# Altium footprint library Transistor.PcbLib: 227 footprints (part 12 of 15)
Each footprint in its own frame and in the unit in brackets; x right, y up, seen from the top. Pads: shape width x height; smd on the part's side, far side on the other; paste and mask are expansions set on the pad; w line width, h text height; cw(c..) or ccw(c..) is an arc to the next point about the centre after c.
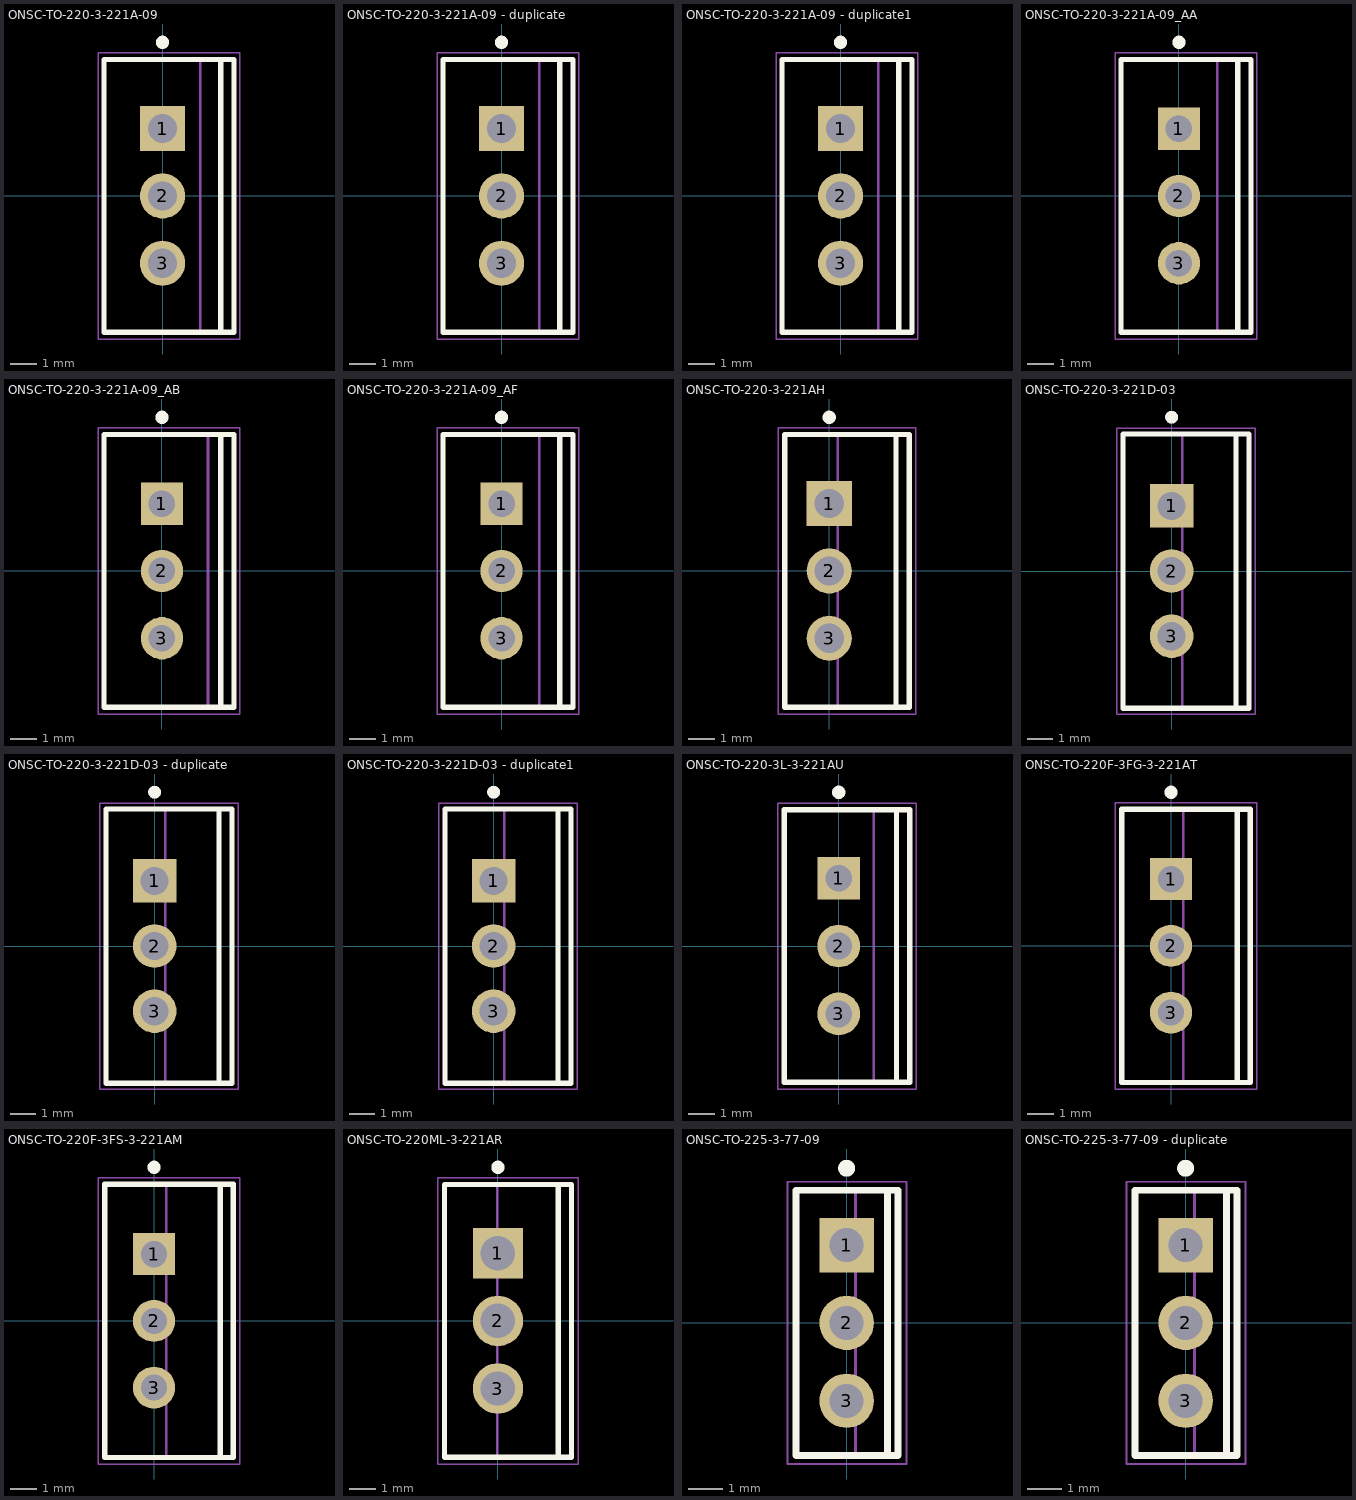
[diagram p11: the footprints below, top view; thin cyan lines are the x and y axes]

## ONSC-TO-220-3-221A-09 [mm] "FM, 3-Leads, Body 10.3x4.85mm, Pitch 2.54mm"
height 19.85
pads (3):
  rect 1.7x1.7 hole 1.1: 1(0,2.54)
  round 1.7 hole 1.1: 2(0,0) 3(0,-2.54)
Top Overlay:
  circle w0.25: c0,5.8 r0.125
  lines w0.2: 2.195,-5.15 2.195,5.15 ; -2.205,-5.15 2.695,-5.15 2.695,5.15 -2.205,5.15 -2.205,-5.15
Mechanical 13:
  lines w0.1: 1.42,-5.15 1.42,5.15 ; -2.18,-5.15 -2.18,5.15 2.67,5.15 2.67,-5.15 -2.18,-5.15
Mechanical 15:
  lines w0.05: -2.43,-5.4 -2.43,5.4 2.92,5.4 2.92,-5.4 -2.43,-5.4
  lines w0.1: -0.5,0 0.5,0 ; 0,-0.5 0,0.5
3D body: height 2.8, standoff 0, extent -0.25,1.87 0.25,3.21
3D body: height 0, standoff -1.6, extent -0.25,2.15 0.25,2.93
3D body: height 2.8, standoff 0, extent -0.25,-0.67 0.25,0.67
3D body: height 0, standoff -1.6, extent -0.25,-0.39 0.25,0.39
3D body: height 2.8, standoff 0, extent -0.25,-3.21 0.25,-1.87
3D body: height 0, standoff -1.6, extent -0.25,-2.93 0.25,-2.15
3D body: height 13.65, standoff 2.8, extent -2.18,-5.15 2.67,5.15
3D body: height 15.13, standoff 13.65, extent 1.42,-4.975 2.67,4.975
3D body: height 15.17, standoff 15.13, extent 1.42,0.376 2.67,4.975
3D body: height 15.17, standoff 15.13, extent 1.42,-4.975 2.67,-0.376
3D body: height 18.98, standoff 18.94, extent 1.42,0.376 2.67,4.975
3D body: height 18.98, standoff 18.94, extent 1.42,-4.975 2.67,-0.376
3D body: height 15.28, standoff 15.16, extent 1.42,0.737 2.67,4.975
3D body: height 15.28, standoff 15.16, extent 1.42,-4.975 2.67,-0.737
3D body: height 18.94, standoff 18.83, extent 1.42,0.737 2.67,4.975
3D body: height 18.94, standoff 18.83, extent 1.42,-4.975 2.67,-0.737
3D body: height 15.45, standoff 15.27, extent 1.42,1.069 2.67,4.975
3D body: height 15.45, standoff 15.27, extent 1.42,-4.975 2.67,-1.069
3D body: height 18.83, standoff 18.65, extent 1.42,1.069 2.67,4.975
3D body: height 18.83, standoff 18.65, extent 1.42,-4.975 2.67,-1.069
3D body: height 15.69, standoff 15.45, extent 1.42,1.361 2.67,4.975
3D body: height 15.69, standoff 15.45, extent 1.42,-4.975 2.67,-1.361
3D body: height 18.66, standoff 18.41, extent 1.42,1.361 2.67,4.975
3D body: height 18.66, standoff 18.41, extent 1.42,-4.975 2.67,-1.361
3D body: height 15.99, standoff 15.69, extent 1.42,1.601 2.67,4.975
3D body: height 15.99, standoff 15.69, extent 1.42,-4.975 2.67,-1.601
3D body: height 18.42, standoff 18.12, extent 1.42,1.601 2.67,4.975
3D body: height 18.42, standoff 18.12, extent 1.42,-4.975 2.67,-1.601
3D body: height 16.32, standoff 15.98, extent 1.42,1.778 2.67,4.975
3D body: height 16.32, standoff 15.98, extent 1.42,-4.975 2.67,-1.778
3D body: height 18.12, standoff 17.79, extent 1.42,1.778 2.67,4.975
3D body: height 18.12, standoff 17.79, extent 1.42,-4.975 2.67,-1.778
3D body: height 16.68, standoff 16.31, extent 1.42,1.888 2.67,4.975
3D body: height 16.68, standoff 16.31, extent 1.42,-4.975 2.67,-1.888
3D body: height 17.79, standoff 17.43, extent 1.42,1.888 2.67,4.975
3D body: height 17.79, standoff 17.43, extent 1.42,-4.975 2.67,-1.888
3D body: height 17.05, standoff 16.67, extent 1.42,1.925 2.67,4.975
3D body: height 17.05, standoff 16.67, extent 1.42,-4.975 2.67,-1.925
3D body: height 17.43, standoff 17.05, extent 1.42,1.925 2.67,4.975
3D body: height 17.43, standoff 17.05, extent 1.42,-4.975 2.67,-1.925
3D body: height 19.85, standoff 18.98, extent 1.42,-4.975 2.67,4.975

## ONSC-TO-220-3-221A-09 - duplicate [mm] "FM, 3-Leads, Body 10.3x4.85mm, Pitch 2.54mm"
height 19.85
pads (3):
  rect 1.7x1.7 hole 1.1: 1(0,2.54)
  round 1.7 hole 1.1: 2(0,0) 3(0,-2.54)
Top Overlay:
  circle w0.25: c0,5.8 r0.125
  lines w0.2: 2.195,-5.15 2.195,5.15 ; -2.205,-5.15 -2.205,5.15 2.695,5.15 2.695,-5.15 -2.205,-5.15
Mechanical 13:
  lines w0.1: 1.42,-5.15 1.42,5.15 ; -2.18,-5.15 2.67,-5.15 2.67,5.15 -2.18,5.15 -2.18,-5.15
Mechanical 15:
  lines w0.05: -2.43,-5.4 2.92,-5.4 2.92,5.4 -2.43,5.4 -2.43,-5.4
  lines w0.1: -0.5,0 0.5,0 ; 0,-0.5 0,0.5
3D body: height 19.85, standoff 18.98, extent 1.42,-4.975 2.67,4.975
3D body: height 17.43, standoff 17.05, extent 1.42,-4.975 2.67,-1.925
3D body: height 17.43, standoff 17.05, extent 1.42,1.925 2.67,4.975
3D body: height 17.05, standoff 16.67, extent 1.42,-4.975 2.67,-1.925
3D body: height 17.05, standoff 16.67, extent 1.42,1.925 2.67,4.975
3D body: height 17.79, standoff 17.43, extent 1.42,-4.975 2.67,-1.888
3D body: height 17.79, standoff 17.43, extent 1.42,1.888 2.67,4.975
3D body: height 16.68, standoff 16.31, extent 1.42,-4.975 2.67,-1.888
3D body: height 16.68, standoff 16.31, extent 1.42,1.888 2.67,4.975
3D body: height 18.12, standoff 17.79, extent 1.42,-4.975 2.67,-1.778
3D body: height 18.12, standoff 17.79, extent 1.42,1.778 2.67,4.975
3D body: height 16.32, standoff 15.98, extent 1.42,-4.975 2.67,-1.778
3D body: height 16.32, standoff 15.98, extent 1.42,1.778 2.67,4.975
3D body: height 18.42, standoff 18.12, extent 1.42,-4.975 2.67,-1.601
3D body: height 18.42, standoff 18.12, extent 1.42,1.601 2.67,4.975
3D body: height 15.99, standoff 15.69, extent 1.42,-4.975 2.67,-1.601
3D body: height 15.99, standoff 15.69, extent 1.42,1.601 2.67,4.975
3D body: height 18.66, standoff 18.41, extent 1.42,-4.975 2.67,-1.361
3D body: height 18.66, standoff 18.41, extent 1.42,1.361 2.67,4.975
3D body: height 15.69, standoff 15.45, extent 1.42,-4.975 2.67,-1.361
3D body: height 15.69, standoff 15.45, extent 1.42,1.361 2.67,4.975
3D body: height 18.83, standoff 18.65, extent 1.42,-4.975 2.67,-1.069
3D body: height 18.83, standoff 18.65, extent 1.42,1.069 2.67,4.975
3D body: height 15.45, standoff 15.27, extent 1.42,-4.975 2.67,-1.069
3D body: height 15.45, standoff 15.27, extent 1.42,1.069 2.67,4.975
3D body: height 18.94, standoff 18.83, extent 1.42,-4.975 2.67,-0.737
3D body: height 18.94, standoff 18.83, extent 1.42,0.737 2.67,4.975
3D body: height 15.28, standoff 15.16, extent 1.42,-4.975 2.67,-0.737
3D body: height 15.28, standoff 15.16, extent 1.42,0.737 2.67,4.975
3D body: height 18.98, standoff 18.94, extent 1.42,-4.975 2.67,-0.376
3D body: height 18.98, standoff 18.94, extent 1.42,0.376 2.67,4.975
3D body: height 15.17, standoff 15.13, extent 1.42,-4.975 2.67,-0.376
3D body: height 15.17, standoff 15.13, extent 1.42,0.376 2.67,4.975
3D body: height 15.13, standoff 13.65, extent 1.42,-4.975 2.67,4.975
3D body: height 13.65, standoff 2.8, extent -2.18,-5.15 2.67,5.15
3D body: height 0, standoff -1.6, extent -0.25,-2.93 0.25,-2.15
3D body: height 2.8, standoff 0, extent -0.25,-3.21 0.25,-1.87
3D body: height 0, standoff -1.6, extent -0.25,-0.39 0.25,0.39
3D body: height 2.8, standoff 0, extent -0.25,-0.67 0.25,0.67
3D body: height 0, standoff -1.6, extent -0.25,2.15 0.25,2.93
3D body: height 2.8, standoff 0, extent -0.25,1.87 0.25,3.21

## ONSC-TO-220-3-221A-09 - duplicate1 [mm] "FM, 3-Leads, Body 10.3x4.85mm, Pitch 2.54mm"
height 19.85
pads (3):
  rect 1.7x1.7 hole 1.1: 1(0,2.54)
  round 1.7 hole 1.1: 2(0,0) 3(0,-2.54)
Top Overlay:
  circle w0.25: c0,5.8 r0.125
  lines w0.2: 2.195,-5.15 2.195,5.15 ; -2.205,-5.15 -2.205,5.15 2.695,5.15 2.695,-5.15 -2.205,-5.15
Mechanical 13:
  lines w0.1: 1.42,-5.15 1.42,5.15 ; -2.18,-5.15 2.67,-5.15 2.67,5.15 -2.18,5.15 -2.18,-5.15
Mechanical 15:
  lines w0.05: -2.43,-5.4 2.92,-5.4 2.92,5.4 -2.43,5.4 -2.43,-5.4
  lines w0.1: -0.5,0 0.5,0 ; 0,-0.5 0,0.5
3D body: height 19.85, standoff 18.98, extent 1.42,-4.975 2.67,4.975
3D body: height 17.43, standoff 17.05, extent 1.42,-4.975 2.67,-1.925
3D body: height 17.43, standoff 17.05, extent 1.42,1.925 2.67,4.975
3D body: height 17.05, standoff 16.67, extent 1.42,-4.975 2.67,-1.925
3D body: height 17.05, standoff 16.67, extent 1.42,1.925 2.67,4.975
3D body: height 17.79, standoff 17.43, extent 1.42,-4.975 2.67,-1.888
3D body: height 17.79, standoff 17.43, extent 1.42,1.888 2.67,4.975
3D body: height 16.68, standoff 16.31, extent 1.42,-4.975 2.67,-1.888
3D body: height 16.68, standoff 16.31, extent 1.42,1.888 2.67,4.975
3D body: height 18.12, standoff 17.79, extent 1.42,-4.975 2.67,-1.778
3D body: height 18.12, standoff 17.79, extent 1.42,1.778 2.67,4.975
3D body: height 16.32, standoff 15.98, extent 1.42,-4.975 2.67,-1.778
3D body: height 16.32, standoff 15.98, extent 1.42,1.778 2.67,4.975
3D body: height 18.42, standoff 18.12, extent 1.42,-4.975 2.67,-1.601
3D body: height 18.42, standoff 18.12, extent 1.42,1.601 2.67,4.975
3D body: height 15.99, standoff 15.69, extent 1.42,-4.975 2.67,-1.601
3D body: height 15.99, standoff 15.69, extent 1.42,1.601 2.67,4.975
3D body: height 18.66, standoff 18.41, extent 1.42,-4.975 2.67,-1.361
3D body: height 18.66, standoff 18.41, extent 1.42,1.361 2.67,4.975
3D body: height 15.69, standoff 15.45, extent 1.42,-4.975 2.67,-1.361
3D body: height 15.69, standoff 15.45, extent 1.42,1.361 2.67,4.975
3D body: height 18.83, standoff 18.65, extent 1.42,-4.975 2.67,-1.069
3D body: height 18.83, standoff 18.65, extent 1.42,1.069 2.67,4.975
3D body: height 15.45, standoff 15.27, extent 1.42,-4.975 2.67,-1.069
3D body: height 15.45, standoff 15.27, extent 1.42,1.069 2.67,4.975
3D body: height 18.94, standoff 18.83, extent 1.42,-4.975 2.67,-0.737
3D body: height 18.94, standoff 18.83, extent 1.42,0.737 2.67,4.975
3D body: height 15.28, standoff 15.16, extent 1.42,-4.975 2.67,-0.737
3D body: height 15.28, standoff 15.16, extent 1.42,0.737 2.67,4.975
3D body: height 18.98, standoff 18.94, extent 1.42,-4.975 2.67,-0.376
3D body: height 18.98, standoff 18.94, extent 1.42,0.376 2.67,4.975
3D body: height 15.17, standoff 15.13, extent 1.42,-4.975 2.67,-0.376
3D body: height 15.17, standoff 15.13, extent 1.42,0.376 2.67,4.975
3D body: height 15.13, standoff 13.65, extent 1.42,-4.975 2.67,4.975
3D body: height 13.65, standoff 2.8, extent -2.18,-5.15 2.67,5.15
3D body: height 0, standoff -1.6, extent -0.25,-2.93 0.25,-2.15
3D body: height 2.8, standoff 0, extent -0.25,-3.21 0.25,-1.87
3D body: height 0, standoff -1.6, extent -0.25,-0.39 0.25,0.39
3D body: height 2.8, standoff 0, extent -0.25,-0.67 0.25,0.67
3D body: height 0, standoff -1.6, extent -0.25,2.15 0.25,2.93
3D body: height 2.8, standoff 0, extent -0.25,1.87 0.25,3.21

## ONSC-TO-220-3-221A-09_AA [mm] "FM, 3-Leads, Body 10.3x4.85mm, Pitch 2.54mm"
height 19.68
pads (3):
  rect 1.6x1.6 hole 1: 1(0,2.54)
  round 1.6 hole 1: 2(0,0) 3(0,-2.54)
Top Overlay:
  circle w0.25: c0,5.8 r0.125
  lines w0.2: 2.215,-5.15 2.215,5.15 ; -2.185,-5.15 2.715,-5.15 2.715,5.15 -2.185,5.15 -2.185,-5.15
Mechanical 13:
  lines w0.1: 1.44,-5.15 1.44,5.15 ; -2.16,-5.15 -2.16,5.15 2.69,5.15 2.69,-5.15 -2.16,-5.15
Mechanical 15:
  lines w0.05: -2.41,-5.4 -2.41,5.4 2.94,5.4 2.94,-5.4 -2.41,-5.4
  lines w0.1: -0.5,0 0.5,0 ; 0,-0.5 0,0.5
3D body: height 2.8, standoff 0, extent -0.275,1.87 0.275,3.21
3D body: height 0, standoff -1.6, extent -0.275,2.16 0.275,2.92
3D body: height 2.8, standoff 0, extent -0.275,-0.67 0.275,0.67
3D body: height 0, standoff -1.6, extent -0.275,-0.38 0.275,0.38
3D body: height 2.8, standoff 0, extent -0.275,-3.21 0.275,-1.87
3D body: height 0, standoff -1.6, extent -0.275,-2.92 0.275,-2.16
3D body: height 13.48, standoff 2.8, extent -2.16,-5.15 2.69,5.15
3D body: height 15.06, standoff 13.48, extent 1.44,-4.975 2.69,4.975
3D body: height 15.1, standoff 15.06, extent 1.44,0.356 2.69,4.975
3D body: height 15.1, standoff 15.06, extent 1.44,-4.975 2.69,-0.356
3D body: height 18.71, standoff 18.67, extent 1.44,0.356 2.69,4.975
3D body: height 18.71, standoff 18.67, extent 1.44,-4.975 2.69,-0.356
3D body: height 15.2, standoff 15.09, extent 1.44,0.698 2.69,4.975
3D body: height 15.2, standoff 15.09, extent 1.44,-4.975 2.69,-0.698
3D body: height 18.67, standoff 18.57, extent 1.44,0.698 2.69,4.975
3D body: height 18.67, standoff 18.57, extent 1.44,-4.975 2.69,-0.698
3D body: height 15.37, standoff 15.19, extent 1.44,1.014 2.69,4.975
3D body: height 15.37, standoff 15.19, extent 1.44,-4.975 2.69,-1.014
3D body: height 18.57, standoff 18.4, extent 1.44,1.014 2.69,4.975
3D body: height 18.57, standoff 18.4, extent 1.44,-4.975 2.69,-1.014
3D body: height 15.59, standoff 15.36, extent 1.44,1.29 2.69,4.975
3D body: height 15.59, standoff 15.36, extent 1.44,-4.975 2.69,-1.29
3D body: height 18.4, standoff 18.17, extent 1.44,1.29 2.69,4.975
3D body: height 18.4, standoff 18.17, extent 1.44,-4.975 2.69,-1.29
3D body: height 15.87, standoff 15.59, extent 1.44,1.517 2.69,4.975
3D body: height 15.87, standoff 15.59, extent 1.44,-4.975 2.69,-1.517
3D body: height 18.18, standoff 17.89, extent 1.44,1.517 2.69,4.975
3D body: height 18.18, standoff 17.89, extent 1.44,-4.975 2.69,-1.517
3D body: height 16.19, standoff 15.87, extent 1.44,1.686 2.69,4.975
3D body: height 16.19, standoff 15.87, extent 1.44,-4.975 2.69,-1.686
3D body: height 17.9, standoff 17.58, extent 1.44,1.686 2.69,4.975
3D body: height 17.9, standoff 17.58, extent 1.44,-4.975 2.69,-1.686
3D body: height 16.53, standoff 16.18, extent 1.44,1.79 2.69,4.975
3D body: height 16.53, standoff 16.18, extent 1.44,-4.975 2.69,-1.79
3D body: height 17.58, standoff 17.24, extent 1.44,1.79 2.69,4.975
3D body: height 17.58, standoff 17.24, extent 1.44,-4.975 2.69,-1.79
3D body: height 16.88, standoff 16.52, extent 1.44,1.825 2.69,4.975
3D body: height 16.88, standoff 16.52, extent 1.44,-4.975 2.69,-1.825
3D body: height 17.24, standoff 16.88, extent 1.44,1.825 2.69,4.975
3D body: height 17.24, standoff 16.88, extent 1.44,-4.975 2.69,-1.825
3D body: height 19.68, standoff 18.71, extent 1.44,-4.975 2.69,4.975

## ONSC-TO-220-3-221A-09_AB [mm] "FM, 3-Leads, Body 10.3x4.85mm, Pitch 2.54mm"
height 19.68
pads (3):
  rect 1.6x1.6 hole 1: 1(0,2.54)
  round 1.6 hole 1: 2(0,0) 3(0,-2.54)
Top Overlay:
  circle w0.25: c0,5.8 r0.125
  lines w0.2: 2.215,-5.15 2.215,5.15 ; -2.185,-5.15 2.715,-5.15 2.715,5.15 -2.185,5.15 -2.185,-5.15
Mechanical 13:
  lines w0.1: 1.74,-5.15 1.74,5.15 ; -2.16,-5.15 -2.16,5.15 2.69,5.15 2.69,-5.15 -2.16,-5.15
Mechanical 15:
  lines w0.05: -2.41,-5.4 -2.41,5.4 2.94,5.4 2.94,-5.4 -2.41,-5.4
  lines w0.1: -0.5,0 0.5,0 ; 0,-0.5 0,0.5
3D body: height 2.8, standoff 0, extent -0.275,1.87 0.275,3.21
3D body: height 0, standoff -1.6, extent -0.275,2.16 0.275,2.92
3D body: height 2.8, standoff 0, extent -0.275,-0.67 0.275,0.67
3D body: height 0, standoff -1.6, extent -0.275,-0.38 0.275,0.38
3D body: height 2.8, standoff 0, extent -0.275,-3.21 0.275,-1.87
3D body: height 0, standoff -1.6, extent -0.275,-2.92 0.275,-2.16
3D body: height 13.48, standoff 2.8, extent -2.16,-5.15 2.69,5.15
3D body: height 15.06, standoff 13.48, extent 1.74,-4.975 2.69,4.975
3D body: height 15.1, standoff 15.06, extent 1.74,0.356 2.69,4.975
3D body: height 15.1, standoff 15.06, extent 1.74,-4.975 2.69,-0.356
3D body: height 18.71, standoff 18.67, extent 1.74,0.356 2.69,4.975
3D body: height 18.71, standoff 18.67, extent 1.74,-4.975 2.69,-0.356
3D body: height 15.2, standoff 15.09, extent 1.74,0.698 2.69,4.975
3D body: height 15.2, standoff 15.09, extent 1.74,-4.975 2.69,-0.698
3D body: height 18.67, standoff 18.57, extent 1.74,0.698 2.69,4.975
3D body: height 18.67, standoff 18.57, extent 1.74,-4.975 2.69,-0.698
3D body: height 15.37, standoff 15.19, extent 1.74,1.014 2.69,4.975
3D body: height 15.37, standoff 15.19, extent 1.74,-4.975 2.69,-1.014
3D body: height 18.57, standoff 18.4, extent 1.74,1.014 2.69,4.975
3D body: height 18.57, standoff 18.4, extent 1.74,-4.975 2.69,-1.014
3D body: height 15.59, standoff 15.36, extent 1.74,1.29 2.69,4.975
3D body: height 15.59, standoff 15.36, extent 1.74,-4.975 2.69,-1.29
3D body: height 18.4, standoff 18.17, extent 1.74,1.29 2.69,4.975
3D body: height 18.4, standoff 18.17, extent 1.74,-4.975 2.69,-1.29
3D body: height 15.87, standoff 15.59, extent 1.74,1.517 2.69,4.975
3D body: height 15.87, standoff 15.59, extent 1.74,-4.975 2.69,-1.517
3D body: height 18.18, standoff 17.89, extent 1.74,1.517 2.69,4.975
3D body: height 18.18, standoff 17.89, extent 1.74,-4.975 2.69,-1.517
3D body: height 16.19, standoff 15.87, extent 1.74,1.686 2.69,4.975
3D body: height 16.19, standoff 15.87, extent 1.74,-4.975 2.69,-1.686
3D body: height 17.9, standoff 17.58, extent 1.74,1.686 2.69,4.975
3D body: height 17.9, standoff 17.58, extent 1.74,-4.975 2.69,-1.686
3D body: height 16.53, standoff 16.18, extent 1.74,1.79 2.69,4.975
3D body: height 16.53, standoff 16.18, extent 1.74,-4.975 2.69,-1.79
3D body: height 17.58, standoff 17.24, extent 1.74,1.79 2.69,4.975
3D body: height 17.58, standoff 17.24, extent 1.74,-4.975 2.69,-1.79
3D body: height 16.88, standoff 16.52, extent 1.74,1.825 2.69,4.975
3D body: height 16.88, standoff 16.52, extent 1.74,-4.975 2.69,-1.825
3D body: height 17.24, standoff 16.88, extent 1.74,1.825 2.69,4.975
3D body: height 17.24, standoff 16.88, extent 1.74,-4.975 2.69,-1.825
3D body: height 19.68, standoff 18.71, extent 1.74,-4.975 2.69,4.975

## ONSC-TO-220-3-221A-09_AF [mm] "FM, 3-Leads, Body 10.3x4.85mm, Pitch 2.54mm"
height 19.68
pads (3):
  rect 1.6x1.6 hole 1: 1(0,2.54)
  round 1.6 hole 1: 2(0,0) 3(0,-2.54)
Top Overlay:
  circle w0.25: c0,5.8 r0.125
  lines w0.2: 2.195,-5.15 2.195,5.15 ; -2.205,-5.15 2.695,-5.15 2.695,5.15 -2.205,5.15 -2.205,-5.15
Mechanical 13:
  lines w0.1: 1.42,-5.15 1.42,5.15 ; -2.18,-5.15 -2.18,5.15 2.67,5.15 2.67,-5.15 -2.18,-5.15
Mechanical 15:
  lines w0.05: -2.43,-5.4 -2.43,5.4 2.92,5.4 2.92,-5.4 -2.43,-5.4
  lines w0.1: -0.5,0 0.5,0 ; 0,-0.5 0,0.5
3D body: height 2.8, standoff 0, extent -0.25,1.87 0.25,3.21
3D body: height 0, standoff -1.6, extent -0.25,2.16 0.25,2.92
3D body: height 2.8, standoff 0, extent -0.25,-0.67 0.25,0.67
3D body: height 0, standoff -1.6, extent -0.25,-0.38 0.25,0.38
3D body: height 2.8, standoff 0, extent -0.25,-3.21 0.25,-1.87
3D body: height 0, standoff -1.6, extent -0.25,-2.92 0.25,-2.16
3D body: height 13.48, standoff 2.8, extent -2.18,-5.15 2.67,5.15
3D body: height 14.96, standoff 13.48, extent 1.42,-4.975 2.67,4.975
3D body: height 15, standoff 14.96, extent 1.42,0.376 2.67,4.975
3D body: height 15, standoff 14.96, extent 1.42,-4.975 2.67,-0.376
3D body: height 18.81, standoff 18.77, extent 1.42,0.376 2.67,4.975
3D body: height 18.81, standoff 18.77, extent 1.42,-4.975 2.67,-0.376
3D body: height 15.11, standoff 14.99, extent 1.42,0.737 2.67,4.975
3D body: height 15.11, standoff 14.99, extent 1.42,-4.975 2.67,-0.737
3D body: height 18.77, standoff 18.66, extent 1.42,0.737 2.67,4.975
3D body: height 18.77, standoff 18.66, extent 1.42,-4.975 2.67,-0.737
3D body: height 15.28, standoff 15.1, extent 1.42,1.069 2.67,4.975
3D body: height 15.28, standoff 15.1, extent 1.42,-4.975 2.67,-1.069
3D body: height 18.66, standoff 18.48, extent 1.42,1.069 2.67,4.975
3D body: height 18.66, standoff 18.48, extent 1.42,-4.975 2.67,-1.069
3D body: height 15.52, standoff 15.28, extent 1.42,1.361 2.67,4.975
3D body: height 15.52, standoff 15.28, extent 1.42,-4.975 2.67,-1.361
3D body: height 18.49, standoff 18.24, extent 1.42,1.361 2.67,4.975
3D body: height 18.49, standoff 18.24, extent 1.42,-4.975 2.67,-1.361
3D body: height 15.82, standoff 15.52, extent 1.42,1.601 2.67,4.975
3D body: height 15.82, standoff 15.52, extent 1.42,-4.975 2.67,-1.601
3D body: height 18.25, standoff 17.95, extent 1.42,1.601 2.67,4.975
3D body: height 18.25, standoff 17.95, extent 1.42,-4.975 2.67,-1.601
3D body: height 16.15, standoff 15.81, extent 1.42,1.778 2.67,4.975
3D body: height 16.15, standoff 15.81, extent 1.42,-4.975 2.67,-1.778
3D body: height 17.95, standoff 17.62, extent 1.42,1.778 2.67,4.975
3D body: height 17.95, standoff 17.62, extent 1.42,-4.975 2.67,-1.778
3D body: height 16.51, standoff 16.14, extent 1.42,1.888 2.67,4.975
3D body: height 16.51, standoff 16.14, extent 1.42,-4.975 2.67,-1.888
3D body: height 17.62, standoff 17.26, extent 1.42,1.888 2.67,4.975
3D body: height 17.62, standoff 17.26, extent 1.42,-4.975 2.67,-1.888
3D body: height 16.88, standoff 16.5, extent 1.42,1.925 2.67,4.975
3D body: height 16.88, standoff 16.5, extent 1.42,-4.975 2.67,-1.925
3D body: height 17.26, standoff 16.88, extent 1.42,1.925 2.67,4.975
3D body: height 17.26, standoff 16.88, extent 1.42,-4.975 2.67,-1.925
3D body: height 19.68, standoff 18.81, extent 1.42,-4.975 2.67,4.975

## ONSC-TO-220-3-221AH [mm] "FM, 3-Leads, Body 10.3x4.7mm, Pitch 2.54mm"
height 17.4
pads (3):
  rect 1.7x1.7 hole 1.1: 1(0,2.54)
  round 1.7 hole 1.1: 2(0,0) 3(0,-2.54)
Top Overlay:
  circle w0.25: c0,5.8 r0.125
  lines w0.2: 2.52,-5.15 2.52,5.15 ; -1.68,-5.15 3.02,-5.15 3.02,5.15 -1.68,5.15 -1.68,-5.15
Mechanical 13:
  lines w0.1: 0.32,-5.15 0.32,5.15 ; -1.68,-5.15 -1.68,5.15 3.02,5.15 3.02,-5.15 -1.68,-5.15
Mechanical 15:
  lines w0.05: -1.93,-5.4 -1.93,5.4 3.27,5.4 3.27,-5.4 -1.93,-5.4
  lines w0.1: -0.5,0 0.5,0 ; 0,-0.5 0,0.5
3D body: height 2.1, standoff 0, extent -0.32,1.915 0.32,3.165
3D body: height 0, standoff -1.6, extent -0.32,2.195 0.32,2.885
3D body: height 2.1, standoff 0, extent -0.32,-0.625 0.32,0.625
3D body: height 0, standoff -1.6, extent -0.32,-0.345 0.32,0.345
3D body: height 2.1, standoff 0, extent -0.32,-3.165 0.32,-1.915
3D body: height 0, standoff -1.6, extent -0.32,-2.885 0.32,-2.195
3D body: height 10.5, standoff 2.1, extent -1.68,-5.15 3.02,5.15
3D body: height 12.8, standoff 10.5, extent 0.32,-5 3.02,5
3D body: height 12.84, standoff 12.8, extent 0.32,0.312 3.02,5
3D body: height 12.84, standoff 12.8, extent 0.32,-5 3.02,-0.312
3D body: height 16, standoff 15.97, extent 0.32,0.312 3.02,5
3D body: height 16, standoff 15.97, extent 0.32,-5 3.02,-0.312
3D body: height 12.93, standoff 12.83, extent 0.32,0.612 3.02,5
3D body: height 12.93, standoff 12.83, extent 0.32,-5 3.02,-0.612
3D body: height 15.97, standoff 15.88, extent 0.32,0.612 3.02,5
3D body: height 15.97, standoff 15.88, extent 0.32,-5 3.02,-0.612
3D body: height 13.07, standoff 12.92, extent 0.32,0.889 3.02,5
3D body: height 13.07, standoff 12.92, extent 0.32,-5 3.02,-0.889
3D body: height 15.88, standoff 15.73, extent 0.32,0.889 3.02,5
3D body: height 15.88, standoff 15.73, extent 0.32,-5 3.02,-0.889
3D body: height 13.27, standoff 13.07, extent 0.32,1.131 3.02,5
3D body: height 13.27, standoff 13.07, extent 0.32,-5 3.02,-1.131
3D body: height 15.74, standoff 15.53, extent 0.32,1.131 3.02,5
3D body: height 15.74, standoff 15.53, extent 0.32,-5 3.02,-1.131
3D body: height 13.52, standoff 13.27, extent 0.32,1.33 3.02,5
3D body: height 13.52, standoff 13.27, extent 0.32,-5 3.02,-1.33
3D body: height 15.54, standoff 15.29, extent 0.32,1.33 3.02,5
3D body: height 15.54, standoff 15.29, extent 0.32,-5 3.02,-1.33
3D body: height 13.79, standoff 13.51, extent 0.32,1.478 3.02,5
3D body: height 13.79, standoff 13.51, extent 0.32,-5 3.02,-1.478
3D body: height 15.29, standoff 15.01, extent 0.32,1.478 3.02,5
3D body: height 15.29, standoff 15.01, extent 0.32,-5 3.02,-1.478
3D body: height 14.09, standoff 13.79, extent 0.32,1.569 3.02,5
3D body: height 14.09, standoff 13.79, extent 0.32,-5 3.02,-1.569
3D body: height 15.02, standoff 14.71, extent 0.32,1.569 3.02,5
3D body: height 15.02, standoff 14.71, extent 0.32,-5 3.02,-1.569
3D body: height 14.4, standoff 14.09, extent 0.32,1.6 3.02,5
3D body: height 14.4, standoff 14.09, extent 0.32,-5 3.02,-1.6
3D body: height 14.72, standoff 14.4, extent 0.32,1.6 3.02,5
3D body: height 14.72, standoff 14.4, extent 0.32,-5 3.02,-1.6
3D body: height 17.4, standoff 16, extent 0.32,-5 3.02,5

## ONSC-TO-220-3-221D-03 [mm] "FM, 3-Leads, Body 10.65x4.9mm, Pitch 2.54mm"
height 19.55
pads (3):
  rect 1.7x1.7 hole 1.1: 1(0,2.54)
  round 1.7 hole 1.1: 2(0,0) 3(0,-2.54)
Top Overlay:
  circle w0.25: c0,6 r0.125
  lines w0.2: 2.51,-5.35 2.51,5.35 ; -1.89,-5.35 3.01,-5.35 3.01,5.35 -1.89,5.35 -1.89,-5.35
Mechanical 13:
  lines w0.1: 0.41,-5.325 0.41,5.325 ; -1.89,-5.325 -1.89,5.325 3.01,5.325 3.01,-5.325 -1.89,-5.325
Mechanical 15:
  lines w0.05: -2.14,-5.575 -2.14,5.575 3.26,5.575 3.26,-5.575 -2.14,-5.575
  lines w0.1: -0.5,0 0.5,0 ; 0,-0.5 0,0.5
3D body: height 3, standoff 0, extent -0.27,1.865 0.27,3.215
3D body: height 0, standoff -1.6, extent -0.27,2.14 0.27,2.94
3D body: height 3, standoff 0, extent -0.27,-0.675 0.27,0.675
3D body: height 0, standoff -1.6, extent -0.27,-0.4 0.27,0.4
3D body: height 3, standoff 0, extent -0.27,-3.215 0.27,-1.865
3D body: height 0, standoff -1.6, extent -0.27,-2.94 0.27,-2.14
3D body: height 13.1, standoff 3, extent -1.89,-5.325 3.01,5.325
3D body: height 14.7, standoff 13.1, extent 0.41,-5.15 3.01,5.15
3D body: height 14.73, standoff 14.7, extent 0.41,0.302 3.01,5.15
3D body: height 14.73, standoff 14.7, extent 0.41,-5.15 3.01,-0.302
3D body: height 17.8, standoff 17.77, extent 0.41,0.302 3.01,5.15
3D body: height 17.8, standoff 17.77, extent 0.41,-5.15 3.01,-0.302
3D body: height 14.82, standoff 14.73, extent 0.41,0.593 3.01,5.15
3D body: height 14.82, standoff 14.73, extent 0.41,-5.15 3.01,-0.593
3D body: height 17.78, standoff 17.68, extent 0.41,0.593 3.01,5.15
3D body: height 17.78, standoff 17.68, extent 0.41,-5.15 3.01,-0.593
3D body: height 14.97, standoff 14.82, extent 0.41,0.861 3.01,5.15
3D body: height 14.97, standoff 14.82, extent 0.41,-5.15 3.01,-0.861
3D body: height 17.69, standoff 17.54, extent 0.41,0.861 3.01,5.15
3D body: height 17.69, standoff 17.54, extent 0.41,-5.15 3.01,-0.861
3D body: height 15.16, standoff 14.96, extent 0.41,1.096 3.01,5.15
3D body: height 15.16, standoff 14.96, extent 0.41,-5.15 3.01,-1.096
3D body: height 17.54, standoff 17.35, extent 0.41,1.096 3.01,5.15
3D body: height 17.54, standoff 17.35, extent 0.41,-5.15 3.01,-1.096
3D body: height 15.39, standoff 15.15, extent 0.41,1.289 3.01,5.15
3D body: height 15.39, standoff 15.15, extent 0.41,-5.15 3.01,-1.289
3D body: height 17.35, standoff 17.11, extent 0.41,1.289 3.01,5.15
3D body: height 17.35, standoff 17.11, extent 0.41,-5.15 3.01,-1.289
3D body: height 15.66, standoff 15.39, extent 0.41,1.432 3.01,5.15
3D body: height 15.66, standoff 15.39, extent 0.41,-5.15 3.01,-1.432
3D body: height 17.12, standoff 16.84, extent 0.41,1.432 3.01,5.15
3D body: height 17.12, standoff 16.84, extent 0.41,-5.15 3.01,-1.432
3D body: height 15.95, standoff 15.66, extent 0.41,1.52 3.01,5.15
3D body: height 15.95, standoff 15.66, extent 0.41,-5.15 3.01,-1.52
3D body: height 16.85, standoff 16.55, extent 0.41,1.52 3.01,5.15
3D body: height 16.85, standoff 16.55, extent 0.41,-5.15 3.01,-1.52
3D body: height 16.25, standoff 15.95, extent 0.41,1.55 3.01,5.15
3D body: height 16.25, standoff 15.95, extent 0.41,-5.15 3.01,-1.55
3D body: height 16.56, standoff 16.25, extent 0.41,1.55 3.01,5.15
3D body: height 16.56, standoff 16.25, extent 0.41,-5.15 3.01,-1.55
3D body: height 19.55, standoff 17.8, extent 0.41,-5.15 3.01,5.15

## ONSC-TO-220-3-221D-03 - duplicate [mm] "FM, 3-Leads, Body 10.65x4.9mm, Pitch 2.54mm"
height 19.55
pads (3):
  rect 1.7x1.7 hole 1.1: 1(0,2.54)
  round 1.7 hole 1.1: 2(0,0) 3(0,-2.54)
Top Overlay:
  circle w0.25: c0,6 r0.125
  lines w0.2: 2.51,-5.35 2.51,5.35 ; -1.89,-5.35 -1.89,5.35 3.01,5.35 3.01,-5.35 -1.89,-5.35
Mechanical 13:
  lines w0.1: 0.41,-5.325 0.41,5.325 ; -1.89,-5.325 3.01,-5.325 3.01,5.325 -1.89,5.325 -1.89,-5.325
Mechanical 15:
  lines w0.05: -2.14,-5.575 3.26,-5.575 3.26,5.575 -2.14,5.575 -2.14,-5.575
  lines w0.1: -0.5,0 0.5,0 ; 0,-0.5 0,0.5
3D body: height 19.55, standoff 17.8, extent 0.41,-5.15 3.01,5.15
3D body: height 16.56, standoff 16.25, extent 0.41,-5.15 3.01,-1.55
3D body: height 16.56, standoff 16.25, extent 0.41,1.55 3.01,5.15
3D body: height 16.25, standoff 15.95, extent 0.41,-5.15 3.01,-1.55
3D body: height 16.25, standoff 15.95, extent 0.41,1.55 3.01,5.15
3D body: height 16.85, standoff 16.55, extent 0.41,-5.15 3.01,-1.52
3D body: height 16.85, standoff 16.55, extent 0.41,1.52 3.01,5.15
3D body: height 15.95, standoff 15.66, extent 0.41,-5.15 3.01,-1.52
3D body: height 15.95, standoff 15.66, extent 0.41,1.52 3.01,5.15
3D body: height 17.12, standoff 16.84, extent 0.41,-5.15 3.01,-1.432
3D body: height 17.12, standoff 16.84, extent 0.41,1.432 3.01,5.15
3D body: height 15.66, standoff 15.39, extent 0.41,-5.15 3.01,-1.432
3D body: height 15.66, standoff 15.39, extent 0.41,1.432 3.01,5.15
3D body: height 17.35, standoff 17.11, extent 0.41,-5.15 3.01,-1.289
3D body: height 17.35, standoff 17.11, extent 0.41,1.289 3.01,5.15
3D body: height 15.39, standoff 15.15, extent 0.41,-5.15 3.01,-1.289
3D body: height 15.39, standoff 15.15, extent 0.41,1.289 3.01,5.15
3D body: height 17.54, standoff 17.35, extent 0.41,-5.15 3.01,-1.096
3D body: height 17.54, standoff 17.35, extent 0.41,1.096 3.01,5.15
3D body: height 15.16, standoff 14.96, extent 0.41,-5.15 3.01,-1.096
3D body: height 15.16, standoff 14.96, extent 0.41,1.096 3.01,5.15
3D body: height 17.69, standoff 17.54, extent 0.41,-5.15 3.01,-0.861
3D body: height 17.69, standoff 17.54, extent 0.41,0.861 3.01,5.15
3D body: height 14.97, standoff 14.82, extent 0.41,-5.15 3.01,-0.861
3D body: height 14.97, standoff 14.82, extent 0.41,0.861 3.01,5.15
3D body: height 17.78, standoff 17.68, extent 0.41,-5.15 3.01,-0.593
3D body: height 17.78, standoff 17.68, extent 0.41,0.593 3.01,5.15
3D body: height 14.82, standoff 14.73, extent 0.41,-5.15 3.01,-0.593
3D body: height 14.82, standoff 14.73, extent 0.41,0.593 3.01,5.15
3D body: height 17.8, standoff 17.77, extent 0.41,-5.15 3.01,-0.302
3D body: height 17.8, standoff 17.77, extent 0.41,0.302 3.01,5.15
3D body: height 14.73, standoff 14.7, extent 0.41,-5.15 3.01,-0.302
3D body: height 14.73, standoff 14.7, extent 0.41,0.302 3.01,5.15
3D body: height 14.7, standoff 13.1, extent 0.41,-5.15 3.01,5.15
3D body: height 13.1, standoff 3, extent -1.89,-5.325 3.01,5.325
3D body: height 0, standoff -1.6, extent -0.27,-2.94 0.27,-2.14
3D body: height 3, standoff 0, extent -0.27,-3.215 0.27,-1.865
3D body: height 0, standoff -1.6, extent -0.27,-0.4 0.27,0.4
3D body: height 3, standoff 0, extent -0.27,-0.675 0.27,0.675
3D body: height 0, standoff -1.6, extent -0.27,2.14 0.27,2.94
3D body: height 3, standoff 0, extent -0.27,1.865 0.27,3.215

## ONSC-TO-220-3-221D-03 - duplicate1 [mm] "FM, 3-Leads, Body 10.65x4.9mm, Pitch 2.54mm"
height 19.55
pads (3):
  rect 1.7x1.7 hole 1.1: 1(0,2.54)
  round 1.7 hole 1.1: 2(0,0) 3(0,-2.54)
Top Overlay:
  circle w0.25: c0,6 r0.125
  lines w0.2: 2.51,-5.35 2.51,5.35 ; -1.89,-5.35 -1.89,5.35 3.01,5.35 3.01,-5.35 -1.89,-5.35
Mechanical 13:
  lines w0.1: 0.41,-5.325 0.41,5.325 ; -1.89,-5.325 3.01,-5.325 3.01,5.325 -1.89,5.325 -1.89,-5.325
Mechanical 15:
  lines w0.05: -2.14,-5.575 3.26,-5.575 3.26,5.575 -2.14,5.575 -2.14,-5.575
  lines w0.1: -0.5,0 0.5,0 ; 0,-0.5 0,0.5
3D body: height 19.55, standoff 17.8, extent 0.41,-5.15 3.01,5.15
3D body: height 16.56, standoff 16.25, extent 0.41,-5.15 3.01,-1.55
3D body: height 16.56, standoff 16.25, extent 0.41,1.55 3.01,5.15
3D body: height 16.25, standoff 15.95, extent 0.41,-5.15 3.01,-1.55
3D body: height 16.25, standoff 15.95, extent 0.41,1.55 3.01,5.15
3D body: height 16.85, standoff 16.55, extent 0.41,-5.15 3.01,-1.52
3D body: height 16.85, standoff 16.55, extent 0.41,1.52 3.01,5.15
3D body: height 15.95, standoff 15.66, extent 0.41,-5.15 3.01,-1.52
3D body: height 15.95, standoff 15.66, extent 0.41,1.52 3.01,5.15
3D body: height 17.12, standoff 16.84, extent 0.41,-5.15 3.01,-1.432
3D body: height 17.12, standoff 16.84, extent 0.41,1.432 3.01,5.15
3D body: height 15.66, standoff 15.39, extent 0.41,-5.15 3.01,-1.432
3D body: height 15.66, standoff 15.39, extent 0.41,1.432 3.01,5.15
3D body: height 17.35, standoff 17.11, extent 0.41,-5.15 3.01,-1.289
3D body: height 17.35, standoff 17.11, extent 0.41,1.289 3.01,5.15
3D body: height 15.39, standoff 15.15, extent 0.41,-5.15 3.01,-1.289
3D body: height 15.39, standoff 15.15, extent 0.41,1.289 3.01,5.15
3D body: height 17.54, standoff 17.35, extent 0.41,-5.15 3.01,-1.096
3D body: height 17.54, standoff 17.35, extent 0.41,1.096 3.01,5.15
3D body: height 15.16, standoff 14.96, extent 0.41,-5.15 3.01,-1.096
3D body: height 15.16, standoff 14.96, extent 0.41,1.096 3.01,5.15
3D body: height 17.69, standoff 17.54, extent 0.41,-5.15 3.01,-0.861
3D body: height 17.69, standoff 17.54, extent 0.41,0.861 3.01,5.15
3D body: height 14.97, standoff 14.82, extent 0.41,-5.15 3.01,-0.861
3D body: height 14.97, standoff 14.82, extent 0.41,0.861 3.01,5.15
3D body: height 17.78, standoff 17.68, extent 0.41,-5.15 3.01,-0.593
3D body: height 17.78, standoff 17.68, extent 0.41,0.593 3.01,5.15
3D body: height 14.82, standoff 14.73, extent 0.41,-5.15 3.01,-0.593
3D body: height 14.82, standoff 14.73, extent 0.41,0.593 3.01,5.15
3D body: height 17.8, standoff 17.77, extent 0.41,-5.15 3.01,-0.302
3D body: height 17.8, standoff 17.77, extent 0.41,0.302 3.01,5.15
3D body: height 14.73, standoff 14.7, extent 0.41,-5.15 3.01,-0.302
3D body: height 14.73, standoff 14.7, extent 0.41,0.302 3.01,5.15
3D body: height 14.7, standoff 13.1, extent 0.41,-5.15 3.01,5.15
3D body: height 13.1, standoff 3, extent -1.89,-5.325 3.01,5.325
3D body: height 0, standoff -1.6, extent -0.27,-2.94 0.27,-2.14
3D body: height 3, standoff 0, extent -0.27,-3.215 0.27,-1.865
3D body: height 0, standoff -1.6, extent -0.27,-0.4 0.27,0.4
3D body: height 3, standoff 0, extent -0.27,-0.675 0.27,0.675
3D body: height 0, standoff -1.6, extent -0.27,2.14 0.27,2.94
3D body: height 3, standoff 0, extent -0.27,1.865 0.27,3.215

## ONSC-TO-220-3L-3-221AU [mm] "FM, 3-Leads, Body 10.2x4.7mm, Pitch 2.54mm"
height 19.1
pads (3):
  rect 1.6x1.6 hole 1: 1(0,2.54)
  round 1.6 hole 1: 2(0,0) 3(0,-2.54)
Top Overlay:
  circle w0.25: c0,5.75 r0.125
  lines w0.2: 2.16,-5.1 2.16,5.1 ; -2.04,-5.1 2.66,-5.1 2.66,5.1 -2.04,5.1 -2.04,-5.1
Mechanical 13:
  lines w0.1: 1.31,-5.1 1.31,5.1 ; -2.04,-5.1 -2.04,5.1 2.66,5.1 2.66,-5.1 -2.04,-5.1
Mechanical 15:
  lines w0.05: -2.29,-5.35 -2.29,5.35 2.91,5.35 2.91,-5.35 -2.29,-5.35
  lines w0.1: -0.5,0 0.5,0 ; 0,-0.5 0,0.5
3D body: height 2.8, standoff 0, extent -0.265,1.78 0.265,3.3
3D body: height 0, standoff -1.6, extent -0.265,2.14 0.265,2.94
3D body: height 2.8, standoff 0, extent -0.265,-0.76 0.265,0.76
3D body: height 0, standoff -1.6, extent -0.265,-0.4 0.265,0.4
3D body: height 2.8, standoff 0, extent -0.265,-3.3 0.265,-1.78
3D body: height 0, standoff -1.6, extent -0.265,-2.94 0.265,-2.14
3D body: height 12.6, standoff 2.8, extent -2.04,-5.1 2.66,5.1
3D body: height 14.5, standoff 12.6, extent 1.31,-5 2.66,5
3D body: height 14.54, standoff 14.5, extent 1.31,0.351 2.66,5
3D body: height 14.54, standoff 14.5, extent 1.31,-5 2.66,-0.351
3D body: height 18.1, standoff 18.07, extent 1.31,0.351 2.66,5
3D body: height 18.1, standoff 18.07, extent 1.31,-5 2.66,-0.351
3D body: height 14.64, standoff 14.53, extent 1.31,0.689 2.66,5
3D body: height 14.64, standoff 14.53, extent 1.31,-5 2.66,-0.689
3D body: height 18.07, standoff 17.96, extent 1.31,0.689 2.66,5
3D body: height 18.07, standoff 17.96, extent 1.31,-5 2.66,-0.689
3D body: height 14.81, standoff 14.64, extent 1.31,1 2.66,5
3D body: height 14.81, standoff 14.64, extent 1.31,-5 2.66,-1
3D body: height 17.97, standoff 17.8, extent 1.31,1 2.66,5
3D body: height 17.97, standoff 17.8, extent 1.31,-5 2.66,-1
3D body: height 15.03, standoff 14.8, extent 1.31,1.273 2.66,5
3D body: height 15.03, standoff 14.8, extent 1.31,-5 2.66,-1.273
3D body: height 17.8, standoff 17.57, extent 1.31,1.273 2.66,5
3D body: height 17.8, standoff 17.57, extent 1.31,-5 2.66,-1.273
3D body: height 15.3, standoff 15.03, extent 1.31,1.497 2.66,5
3D body: height 15.3, standoff 15.03, extent 1.31,-5 2.66,-1.497
3D body: height 17.58, standoff 17.3, extent 1.31,1.497 2.66,5
3D body: height 17.58, standoff 17.3, extent 1.31,-5 2.66,-1.497
3D body: height 15.62, standoff 15.3, extent 1.31,1.663 2.66,5
3D body: height 15.62, standoff 15.3, extent 1.31,-5 2.66,-1.663
3D body: height 17.31, standoff 16.99, extent 1.31,1.663 2.66,5
3D body: height 17.31, standoff 16.99, extent 1.31,-5 2.66,-1.663
3D body: height 15.95, standoff 15.61, extent 1.31,1.765 2.66,5
3D body: height 15.95, standoff 15.61, extent 1.31,-5 2.66,-1.765
3D body: height 16.99, standoff 16.65, extent 1.31,1.765 2.66,5
3D body: height 16.99, standoff 16.65, extent 1.31,-5 2.66,-1.765
3D body: height 16.3, standoff 15.95, extent 1.31,1.8 2.66,5
3D body: height 16.3, standoff 15.95, extent 1.31,-5 2.66,-1.8
3D body: height 16.66, standoff 16.3, extent 1.31,1.8 2.66,5
3D body: height 16.66, standoff 16.3, extent 1.31,-5 2.66,-1.8
3D body: height 19.1, standoff 18.1, extent 1.31,-5 2.66,5

## ONSC-TO-220F-3FG-3-221AT [mm] "FM, 3-Leads, Body 10.4x4.9mm, Pitch 2.54mm"
height 19.5
pads (3):
  rect 1.6x1.6 hole 1: 1(0,2.54)
  round 1.6 hole 1: 2(0,0) 3(0,-2.54)
Top Overlay:
  circle w0.25: c0,5.85 r0.125
  lines w0.2: 2.52,-5.2 2.52,5.2 ; -1.88,-5.2 -1.88,5.2 3.02,5.2 3.02,-5.2 -1.88,-5.2
Mechanical 13:
  lines w0.1: 0.47,-5.2 0.47,5.2 ; -1.88,-5.2 3.02,-5.2 3.02,5.2 -1.88,5.2 -1.88,-5.2
Mechanical 15:
  lines w0.05: -2.13,-5.45 3.27,-5.45 3.27,5.45 -2.13,5.45 -2.13,-5.45
  lines w0.1: -0.5,0 0.5,0 ; 0,-0.5 0,0.5
3D body: height 19.5, standoff 17.8, extent 0.47,-5.075 3.02,5.075
3D body: height 16.52, standoff 16.2, extent 0.47,-5.075 3.02,-1.6
3D body: height 16.52, standoff 16.2, extent 0.47,1.6 3.02,5.075
3D body: height 16.2, standoff 15.89, extent 0.47,-5.075 3.02,-1.6
3D body: height 16.2, standoff 15.89, extent 0.47,1.6 3.02,5.075
3D body: height 16.82, standoff 16.51, extent 0.47,-5.075 3.02,-1.569
3D body: height 16.82, standoff 16.51, extent 0.47,1.569 3.02,5.075
3D body: height 15.89, standoff 15.59, extent 0.47,-5.075 3.02,-1.569
3D body: height 15.89, standoff 15.59, extent 0.47,1.569 3.02,5.075
3D body: height 17.09, standoff 16.81, extent 0.47,-5.075 3.02,-1.478
3D body: height 17.09, standoff 16.81, extent 0.47,1.478 3.02,5.075
3D body: height 15.59, standoff 15.31, extent 0.47,-5.075 3.02,-1.478
3D body: height 15.59, standoff 15.31, extent 0.47,1.478 3.02,5.075
3D body: height 17.34, standoff 17.09, extent 0.47,-5.075 3.02,-1.33
3D body: height 17.34, standoff 17.09, extent 0.47,1.33 3.02,5.075
3D body: height 15.32, standoff 15.07, extent 0.47,-5.075 3.02,-1.33
3D body: height 15.32, standoff 15.07, extent 0.47,1.33 3.02,5.075
3D body: height 17.54, standoff 17.33, extent 0.47,-5.075 3.02,-1.131
3D body: height 17.54, standoff 17.33, extent 0.47,1.131 3.02,5.075
3D body: height 15.07, standoff 14.87, extent 0.47,-5.075 3.02,-1.131
3D body: height 15.07, standoff 14.87, extent 0.47,1.131 3.02,5.075
3D body: height 17.68, standoff 17.53, extent 0.47,-5.075 3.02,-0.889
3D body: height 17.68, standoff 17.53, extent 0.47,0.889 3.02,5.075
3D body: height 14.87, standoff 14.72, extent 0.47,-5.075 3.02,-0.889
3D body: height 14.87, standoff 14.72, extent 0.47,0.889 3.02,5.075
3D body: height 17.77, standoff 17.68, extent 0.47,-5.075 3.02,-0.612
3D body: height 17.77, standoff 17.68, extent 0.47,0.612 3.02,5.075
3D body: height 14.73, standoff 14.63, extent 0.47,-5.075 3.02,-0.612
3D body: height 14.73, standoff 14.63, extent 0.47,0.612 3.02,5.075
3D body: height 17.8, standoff 17.77, extent 0.47,-5.075 3.02,-0.312
3D body: height 17.8, standoff 17.77, extent 0.47,0.312 3.02,5.075
3D body: height 14.64, standoff 14.6, extent 0.47,-5.075 3.02,-0.312
3D body: height 14.64, standoff 14.6, extent 0.47,0.312 3.02,5.075
3D body: height 14.6, standoff 12.8, extent 0.47,-5.075 3.02,5.075
3D body: height 12.8, standoff 3.03, extent -1.88,-5.2 3.02,5.2
3D body: height 0, standoff -1.6, extent -0.265,-2.94 0.265,-2.14
3D body: height 3.03, standoff 0, extent -0.265,-3.275 0.265,-1.805
3D body: height 0, standoff -1.6, extent -0.265,-0.4 0.265,0.4
3D body: height 3.03, standoff 0, extent -0.265,-0.735 0.265,0.735
3D body: height 0, standoff -1.6, extent -0.265,2.14 0.265,2.94
3D body: height 3.03, standoff 0, extent -0.265,1.805 0.265,3.275

## ONSC-TO-220F-3FS-3-221AM [mm] "FM, 3-Leads, Body 10.4x4.9mm, Pitch 2.54mm"
height 19.5
pads (3):
  rect 1.6x1.6 hole 1: 1(0,2.54)
  round 1.6 hole 1: 2(0,0) 3(0,-2.54)
Top Overlay:
  circle w0.25: c0,5.85 r0.125
  lines w0.2: 2.52,-5.2 2.52,5.2 ; -1.88,-5.2 3.02,-5.2 3.02,5.2 -1.88,5.2 -1.88,-5.2
Mechanical 13:
  lines w0.1: 0.47,-5.2 0.47,5.2 ; -1.88,-5.2 -1.88,5.2 3.02,5.2 3.02,-5.2 -1.88,-5.2
Mechanical 15:
  lines w0.05: -2.13,-5.45 -2.13,5.45 3.27,5.45 3.27,-5.45 -2.13,-5.45
  lines w0.1: -0.5,0 0.5,0 ; 0,-0.5 0,0.5
3D body: height 3.03, standoff 0, extent -0.265,1.805 0.265,3.275
3D body: height 0, standoff -1.6, extent -0.265,2.14 0.265,2.94
3D body: height 3.03, standoff 0, extent -0.265,-0.735 0.265,0.735
3D body: height 0, standoff -1.6, extent -0.265,-0.4 0.265,0.4
3D body: height 3.03, standoff 0, extent -0.265,-3.275 0.265,-1.805
3D body: height 0, standoff -1.6, extent -0.265,-2.94 0.265,-2.14
3D body: height 12.8, standoff 3.03, extent -1.88,-5.2 3.02,5.2
3D body: height 14.6, standoff 12.8, extent 0.47,-5.075 3.02,5.075
3D body: height 14.64, standoff 14.6, extent 0.47,0.312 3.02,5.075
3D body: height 14.64, standoff 14.6, extent 0.47,-5.075 3.02,-0.312
3D body: height 17.8, standoff 17.77, extent 0.47,0.312 3.02,5.075
3D body: height 17.8, standoff 17.77, extent 0.47,-5.075 3.02,-0.312
3D body: height 14.73, standoff 14.63, extent 0.47,0.612 3.02,5.075
3D body: height 14.73, standoff 14.63, extent 0.47,-5.075 3.02,-0.612
3D body: height 17.77, standoff 17.68, extent 0.47,0.612 3.02,5.075
3D body: height 17.77, standoff 17.68, extent 0.47,-5.075 3.02,-0.612
3D body: height 14.87, standoff 14.72, extent 0.47,0.889 3.02,5.075
3D body: height 14.87, standoff 14.72, extent 0.47,-5.075 3.02,-0.889
3D body: height 17.68, standoff 17.53, extent 0.47,0.889 3.02,5.075
3D body: height 17.68, standoff 17.53, extent 0.47,-5.075 3.02,-0.889
3D body: height 15.07, standoff 14.87, extent 0.47,1.131 3.02,5.075
3D body: height 15.07, standoff 14.87, extent 0.47,-5.075 3.02,-1.131
3D body: height 17.54, standoff 17.33, extent 0.47,1.131 3.02,5.075
3D body: height 17.54, standoff 17.33, extent 0.47,-5.075 3.02,-1.131
3D body: height 15.32, standoff 15.07, extent 0.47,1.33 3.02,5.075
3D body: height 15.32, standoff 15.07, extent 0.47,-5.075 3.02,-1.33
3D body: height 17.34, standoff 17.09, extent 0.47,1.33 3.02,5.075
3D body: height 17.34, standoff 17.09, extent 0.47,-5.075 3.02,-1.33
3D body: height 15.59, standoff 15.31, extent 0.47,1.478 3.02,5.075
3D body: height 15.59, standoff 15.31, extent 0.47,-5.075 3.02,-1.478
3D body: height 17.09, standoff 16.81, extent 0.47,1.478 3.02,5.075
3D body: height 17.09, standoff 16.81, extent 0.47,-5.075 3.02,-1.478
3D body: height 15.89, standoff 15.59, extent 0.47,1.569 3.02,5.075
3D body: height 15.89, standoff 15.59, extent 0.47,-5.075 3.02,-1.569
3D body: height 16.82, standoff 16.51, extent 0.47,1.569 3.02,5.075
3D body: height 16.82, standoff 16.51, extent 0.47,-5.075 3.02,-1.569
3D body: height 16.2, standoff 15.89, extent 0.47,1.6 3.02,5.075
3D body: height 16.2, standoff 15.89, extent 0.47,-5.075 3.02,-1.6
3D body: height 16.52, standoff 16.2, extent 0.47,1.6 3.02,5.075
3D body: height 16.52, standoff 16.2, extent 0.47,-5.075 3.02,-1.6
3D body: height 19.5, standoff 17.8, extent 0.47,-5.075 3.02,5.075

## ONSC-TO-220ML-3-221AR [mm] "FM, 3-Leads, Body 10.3x4.8mm, Pitch 2.55mm"
height 20.1
pads (3):
  rect 1.9x1.9 hole 1.3: 1(0,2.55)
  round 1.9 hole 1.3: 2(0,0) 3(0,-2.55)
Top Overlay:
  circle w0.25: c0,5.8 r0.125
  lines w0.2: 2.28,-5.15 2.28,5.15 ; -2.02,-5.15 -2.02,5.15 2.78,5.15 2.78,-5.15 -2.02,-5.15
Mechanical 13:
  lines w0.1: -0.02,-5.15 -0.02,5.15 ; -2.02,-5.15 2.78,-5.15 2.78,5.15 -2.02,5.15 -2.02,-5.15
Mechanical 15:
  lines w0.05: -2.27,-5.4 3.03,-5.4 3.03,5.4 -2.27,5.4 -2.27,-5.4
  lines w0.1: -0.5,0 0.5,0 ; 0,-0.5 0,0.5
3D body: height 20.1, standoff 18.2, extent -0.02,-5 2.78,5
3D body: height 16.92, standoff 16.6, extent -0.02,-5 2.78,-1.6
3D body: height 16.92, standoff 16.6, extent -0.02,1.6 2.78,5
3D body: height 16.6, standoff 16.29, extent -0.02,-5 2.78,-1.6
3D body: height 16.6, standoff 16.29, extent -0.02,1.6 2.78,5
3D body: height 17.22, standoff 16.91, extent -0.02,-5 2.78,-1.569
3D body: height 17.22, standoff 16.91, extent -0.02,1.569 2.78,5
3D body: height 16.29, standoff 15.99, extent -0.02,-5 2.78,-1.569
3D body: height 16.29, standoff 15.99, extent -0.02,1.569 2.78,5
3D body: height 17.49, standoff 17.21, extent -0.02,-5 2.78,-1.478
3D body: height 17.49, standoff 17.21, extent -0.02,1.478 2.78,5
3D body: height 15.99, standoff 15.71, extent -0.02,-5 2.78,-1.478
3D body: height 15.99, standoff 15.71, extent -0.02,1.478 2.78,5
3D body: height 17.74, standoff 17.49, extent -0.02,-5 2.78,-1.33
3D body: height 17.74, standoff 17.49, extent -0.02,1.33 2.78,5
3D body: height 15.72, standoff 15.47, extent -0.02,-5 2.78,-1.33
3D body: height 15.72, standoff 15.47, extent -0.02,1.33 2.78,5
3D body: height 17.94, standoff 17.73, extent -0.02,-5 2.78,-1.131
3D body: height 17.94, standoff 17.73, extent -0.02,1.131 2.78,5
3D body: height 15.47, standoff 15.27, extent -0.02,-5 2.78,-1.131
3D body: height 15.47, standoff 15.27, extent -0.02,1.131 2.78,5
3D body: height 18.08, standoff 17.93, extent -0.02,-5 2.78,-0.889
3D body: height 18.08, standoff 17.93, extent -0.02,0.889 2.78,5
3D body: height 15.27, standoff 15.12, extent -0.02,-5 2.78,-0.889
3D body: height 15.27, standoff 15.12, extent -0.02,0.889 2.78,5
3D body: height 18.17, standoff 18.08, extent -0.02,-5 2.78,-0.612
3D body: height 18.17, standoff 18.08, extent -0.02,0.612 2.78,5
3D body: height 15.13, standoff 15.03, extent -0.02,-5 2.78,-0.612
3D body: height 15.13, standoff 15.03, extent -0.02,0.612 2.78,5
3D body: height 18.2, standoff 18.17, extent -0.02,-5 2.78,-0.312
3D body: height 18.2, standoff 18.17, extent -0.02,0.312 2.78,5
3D body: height 15.04, standoff 15, extent -0.02,-5 2.78,-0.312
3D body: height 15.04, standoff 15, extent -0.02,0.312 2.78,5
3D body: height 15, standoff 12.9, extent -0.02,-5 2.78,5
3D body: height 12.9, standoff 3.4, extent -2.02,-5.15 2.78,5.15
3D body: height 0, standoff -1.6, extent -0.375,-2.95 0.375,-2.15
3D body: height 3.4, standoff 0, extent -0.375,-3.4 0.375,-1.7
3D body: height 0, standoff -1.6, extent -0.375,-0.4 0.375,0.4
3D body: height 3.4, standoff 0, extent -0.375,-0.85 0.375,0.85
3D body: height 0, standoff -1.6, extent -0.375,2.15 0.375,2.95
3D body: height 3.4, standoff 0, extent -0.375,1.7 0.375,3.4

## ONSC-TO-225-3-77-09 [mm] "FM, 3-Leads, Body 7.8x3mm, Pitch 2.29mm"
height 13.64
pads (3):
  rect 1.6x1.6 hole 1: 1(0,2.29)
  round 1.6 hole 1: 2(0,0) 3(0,-2.29)
Top Overlay:
  circle w0.25: c0,4.55 r0.125
  lines w0.2: 1.2,-3.9 1.2,3.9 ; -1.49,-3.9 -1.49,3.9 1.51,3.9 1.51,-3.9 -1.49,-3.9
Mechanical 13:
  lines w0.1: 0.26,-3.9 0.26,3.9 ; -1.49,-3.9 1.51,-3.9 1.51,3.9 -1.49,3.9 -1.49,-3.9
Mechanical 15:
  lines w0.05: -1.74,-4.15 1.76,-4.15 1.76,4.15 -1.74,4.15 -1.74,-4.15
  lines w0.1: -0.5,0 0.5,0 ; 0,-0.5 0,0.5
3D body: height 13.64, standoff 13.64, extent 0.26,-3.8 1.51,3.8
3D body: height 13.64, standoff 1.27, extent -1.49,-3.9 1.51,3.9
3D body: height 0, standoff -1.6, extent -0.255,-2.665 0.255,-1.915
3D body: height 1.27, standoff 0, extent -0.255,-2.84 0.255,-1.74
3D body: height 0, standoff -1.6, extent -0.255,-0.375 0.255,0.375
3D body: height 1.27, standoff 0, extent -0.255,-0.55 0.255,0.55
3D body: height 0, standoff -1.6, extent -0.255,1.915 0.255,2.665
3D body: height 1.27, standoff 0, extent -0.255,1.74 0.255,2.84

## ONSC-TO-225-3-77-09 - duplicate [mm] "FM, 3-Leads, Body 7.8x3mm, Pitch 2.29mm"
height 13.64
pads (3):
  rect 1.6x1.6 hole 1: 1(0,2.29)
  round 1.6 hole 1: 2(0,0) 3(0,-2.29)
Top Overlay:
  circle w0.25: c0,4.55 r0.125
  lines w0.2: 1.2,-3.9 1.2,3.9 ; -1.49,-3.9 -1.49,3.9 1.51,3.9 1.51,-3.9 -1.49,-3.9
Mechanical 13:
  lines w0.1: 0.26,-3.9 0.26,3.9 ; -1.49,-3.9 1.51,-3.9 1.51,3.9 -1.49,3.9 -1.49,-3.9
Mechanical 15:
  lines w0.05: -1.74,-4.15 1.76,-4.15 1.76,4.15 -1.74,4.15 -1.74,-4.15
  lines w0.1: -0.5,0 0.5,0 ; 0,-0.5 0,0.5
3D body: height 13.64, standoff 13.64, extent 0.26,-3.8 1.51,3.8
3D body: height 13.64, standoff 1.27, extent -1.49,-3.9 1.51,3.9
3D body: height 0, standoff -1.6, extent -0.255,-2.665 0.255,-1.915
3D body: height 1.27, standoff 0, extent -0.255,-2.84 0.255,-1.74
3D body: height 0, standoff -1.6, extent -0.255,-0.375 0.255,0.375
3D body: height 1.27, standoff 0, extent -0.255,-0.55 0.255,0.55
3D body: height 0, standoff -1.6, extent -0.255,1.915 0.255,2.665
3D body: height 1.27, standoff 0, extent -0.255,1.74 0.255,2.84